# Altium schematic symbol library SCH - MCU - STM32 - ST MICROELECTRONICS STM32U073KCUX UFQFPN32.SchLib: 1 symbol
Pins are listed as number, name and electrical type; pins without a type are passive.

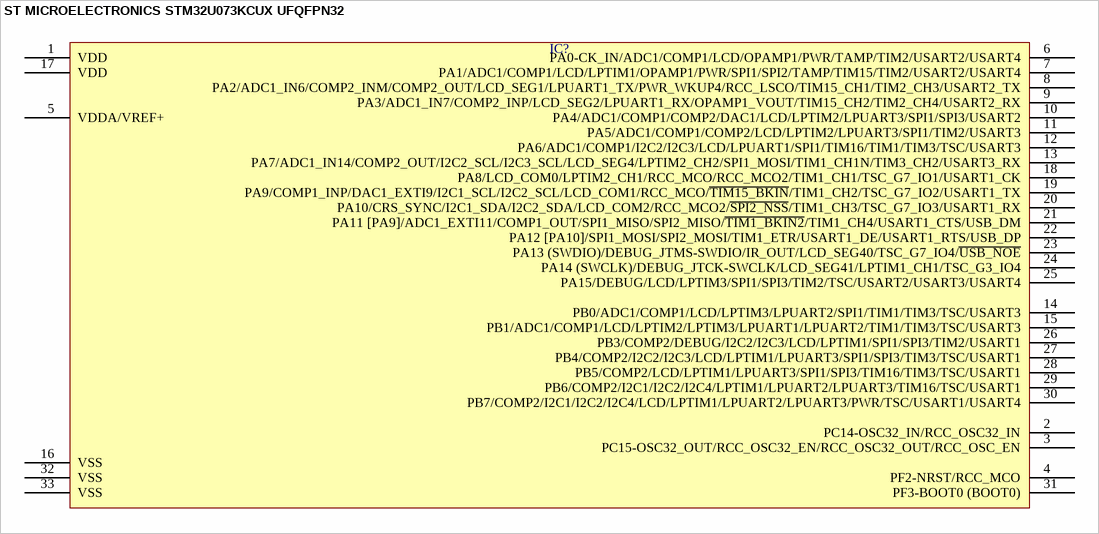
[diagram p0: symbol ST MICROELECTRONICS STM32U073KCUX UFQFPN32]

## ST MICROELECTRONICS STM32U073KCUX UFQFPN32
designator IC?  (value not drawn)
pins: 1 VDD, 2 PC14-OSC32_IN/RCC_OSC32_IN, 3 PC15-OSC32_OUT/RCC_OSC32_EN/RCC_OSC32_OUT/RCC_OSC_EN, 4 PF2-NRST/RCC_MCO, 5 VDDA/VREF+, 6 PA0-CK_IN/ADC1/COMP1/LCD/OPAMP1/PWR/TAMP/TIM2/USART2/USART4, 7 PA1/ADC1/COMP1/LCD/LPTIM1/OPAMP1/PWR/SPI1/SPI2/TAMP/TIM15/TIM2/USART2/USART4, 8 PA2/ADC1_IN6/COMP2_INM/COMP2_OUT/LCD_SEG1/LPUART1_TX/PWR_WKUP4/RCC_LSCO/TIM15_CH1/TIM2_CH3/USART2_TX, 9 PA3/ADC1_IN7/COMP2_INP/LCD_SEG2/LPUART1_RX/OPAMP1_VOUT/TIM15_CH2/TIM2_CH4/USART2_RX, 10 PA4/ADC1/COMP1/COMP2/DAC1/LCD/LPTIM2/LPUART3/SPI1/SPI3/USART2, 11 PA5/ADC1/COMP1/COMP2/LCD/LPTIM2/LPUART3/SPI1/TIM2/USART3, 12 PA6/ADC1/COMP1/I2C2/I2C3/LCD/LPUART1/SPI1/TIM16/TIM1/TIM3/TSC/USART3, 13 PA7/ADC1_IN14/COMP2_OUT/I2C2_SCL/I2C3_SCL/LCD_SEG4/LPTIM2_CH2/SPI1_MOSI/TIM1_CH1N/TIM3_CH2/USART3_RX, 14 PB0/ADC1/COMP1/LCD/LPTIM3/LPUART2/SPI1/TIM1/TIM3/TSC/USART3, 15 PB1/ADC1/COMP1/LCD/LPTIM2/LPTIM3/LPUART1/LPUART2/TIM1/TIM3/TSC/USART3, 16 VSS, 17 VDD, 18 PA8/LCD_COM0/LPTIM2_CH1/RCC_MCO/RCC_MCO2/TIM1_CH1/TSC_G7_IO1/USART1_CK, 19 PA9/COMP1_INP/DAC1_EXTI9/I2C1_SCL/I2C2_SCL/LCD_COM1/RCC_MCO/~{TIM15_BKIN}/TIM1_CH2/TSC_G7_IO2/USART1_TX, 20 PA10/CRS_SYNC/I2C1_SDA/I2C2_SDA/LCD_COM2/RCC_MCO2/~{SPI2_NSS}/TIM1_CH3/TSC_G7_IO3/USART1_RX, 21 PA11 [PA9]/ADC1_EXTI11/COMP1_OUT/SPI1_MISO/SPI2_MISO/~{TIM1_BKIN2}/TIM1_CH4/USART1_CTS/USB_DM, 22 PA12 [PA10]/SPI1_MOSI/SPI2_MOSI/TIM1_ETR/USART1_DE/USART1_RTS/USB_DP, 23 PA13 (SWDIO)/DEBUG_JTMS-SWDIO/IR_OUT/LCD_SEG40/TSC_G7_IO4/~{USB_NOE}, 24 PA14 (SWCLK)/DEBUG_JTCK-SWCLK/LCD_SEG41/LPTIM1_CH1/TSC_G3_IO4, 25 PA15/DEBUG/LCD/LPTIM3/SPI1/SPI3/TIM2/TSC/USART2/USART3/USART4, 26 PB3/COMP2/DEBUG/I2C2/I2C3/LCD/LPTIM1/SPI1/SPI3/TIM2/USART1, 27 PB4/COMP2/I2C2/I2C3/LCD/LPTIM1/LPUART3/SPI1/SPI3/TIM3/TSC/USART1, 28 PB5/COMP2/LCD/LPTIM1/LPUART3/SPI1/SPI3/TIM16/TIM3/TSC/USART1, 29 PB6/COMP2/I2C1/I2C2/I2C4/LPTIM1/LPUART2/LPUART3/TIM16/TSC/USART1, 30 PB7/COMP2/I2C1/I2C2/I2C4/LCD/LPTIM1/LPUART2/LPUART3/PWR/TSC/USART1/USART4, 31 PF3-BOOT0 (BOOT0), 32 VSS, 33 VSS